# Altium schematic symbol library Holder,Cell,LR44,PCB,Thru.Schlib: 1 symbol
Pins are listed as number, name and electrical type; pins without a type are passive.

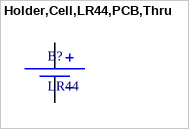
[diagram p0: symbol Holder,Cell,LR44,PCB,Thru]

## Holder,Cell,LR44,PCB,Thru
designator B?, comment LR44
Battery Retainer Coin, 11.6mm 1 Cell PC Pin
pins: 1 BATT_P, 2 BATT_N